# EAGLE library part NINA-W152-03B (library NINA-W152-03B)
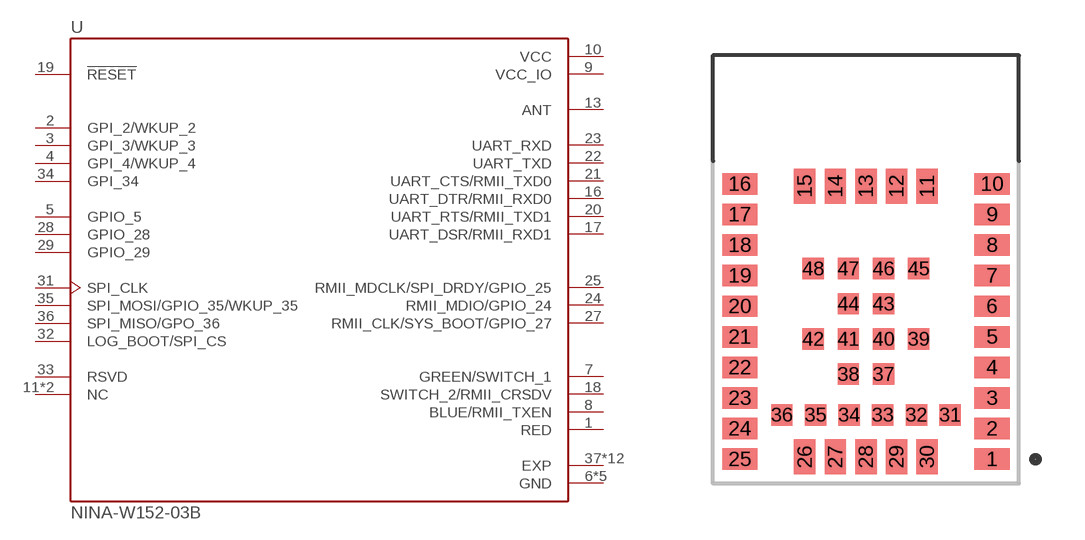
[diagram p0: symbol with the pads of XCVR_NINA-W152-03B; footprint XCVR_NINA-W152-03B]

Designator prefix U

## NINA-W152-03B1 (MANUFACTURER: u-blox; MAXIMUM_PACKAGE_HEIGHT: 3.8mm; PARTREV: R14; SNAPEDA_PN: NINA-W152-03B; STANDARD: Manufacturer Recommendations)  [XCVR_NINA-W152-03B]
1  RED  out
2  GPI_2/WKUP_2  in
3  GPI_3/WKUP_3  in
4  GPI_4/WKUP_4  in
5  GPIO_5
6  GND  pwr
7  GREEN/SWITCH_1
8  BLUE/RMII_TXEN  out
9  VCC_IO  pwr
10  VCC  pwr
11  NC  nc
12  GND  pwr
13  ANT
14  GND  pwr
15  NC  nc
16  UART_DTR/RMII_RXD0
17  UART_DSR/RMII_RXD1
18  SWITCH_2/RMII_CRSDV  in
19  !RESET  in
20  UART_RTS/RMII_TXD1
21  UART_CTS/RMII_TXD0
22  UART_TXD  out
23  UART_RXD  in
24  RMII_MDIO/GPIO_24
25  RMII_MDCLK/SPI_DRDY/GPIO_25
26  GND  pwr
27  RMII_CLK/SYS_BOOT/GPIO_27
28  GPIO_28
29  GPIO_29
30  GND  pwr
31  SPI_CLK  in
32  LOG_BOOT/SPI_CS  in
33  RSVD  pas
34  GPI_34  in
35  SPI_MOSI/GPIO_35/WKUP_35  in
36  SPI_MISO/GPO_36  out
37  EXP  pwr
38  EXP  pwr
39  EXP  pwr
40  EXP  pwr
41  EXP  pwr
42  EXP  pwr
43  EXP  pwr
44  EXP  pwr
45  EXP  pwr
46  EXP  pwr
47  EXP  pwr
48  EXP  pwr

## Footprint XCVR_NINA-W152-03B (pad centres in mm)
smd 1.15 x 0.7: 1 4.125,-6.2; 2 4.125,-5.2; 3 4.125,-4.2; 4 4.125,-3.2; 5 4.125,-2.2; 6 4.125,-1.2; 7 4.125,-0.2; 8 4.125,0.8; 9 4.125,1.8; 10 4.125,2.8; 16 -4.125,2.8; 17 -4.125,1.8; 18 -4.125,0.8; 19 -4.125,-0.2; 20 -4.125,-1.2; 21 -4.125,-2.2; 22 -4.125,-3.2; 23 -4.125,-4.2; 24 -4.125,-5.2; 25 -4.125,-6.2
smd 0.7 x 1.15: 11 2,2.725; 12 1,2.725; 13 0,2.725; 14 -1,2.725; 15 -2,2.725; 26 -2,-6.125; 27 -1,-6.125; 28 0,-6.125; 29 1,-6.125; 30 2,-6.125
smd 0.7 x 0.7: 31 2.75,-4.75; 32 1.65,-4.75; 33 0.55,-4.75; 34 -0.55,-4.75; 35 -1.65,-4.75; 36 -2.75,-4.75; 37 0.575,-3.42; 38 -0.575,-3.42; 39 1.725,-2.27; 40 0.575,-2.27; 41 -0.575,-2.27; 42 -1.725,-2.27; 43 0.575,-1.12; 44 -0.575,-1.12; 45 1.725,0.03; 46 0.575,0.03; 47 -0.575,0.03; 48 -1.725,0.03